# Altium footprint library PCB - CAPACITOR - ALUMINIUM - CAP TH ALUM ELEC D25.00mm S10.00mm H42.00mm.PCBLIB: 1 footprints
Each footprint in its own frame and in the unit in brackets; x right, y up, seen from the top. Pads: shape width x height; smd on the part's side, far side on the other; paste and mask are expansions set on the pad; w line width, h text height; cw(c..) or ccw(c..) is an arc to the next point about the centre after c.
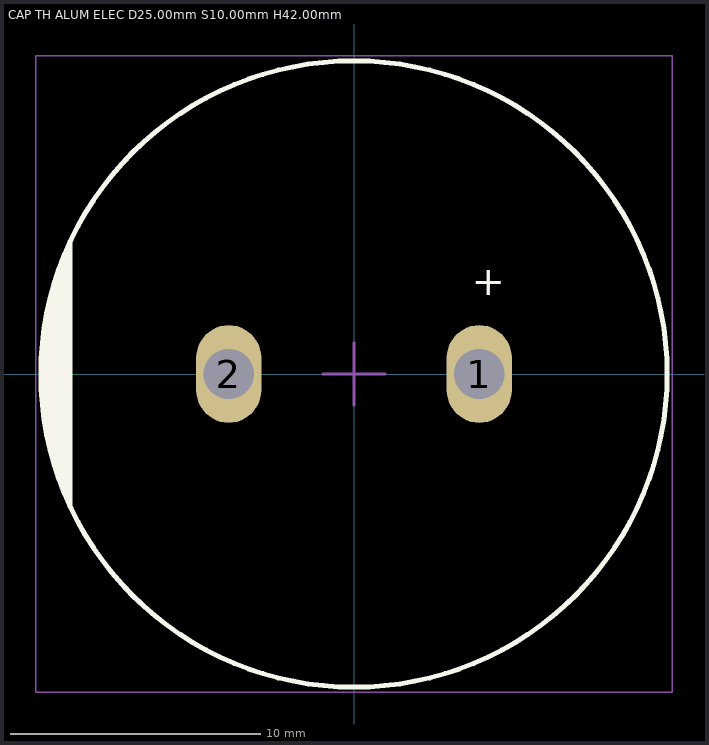
[diagram p0: the footprint, top view; thin cyan lines are the x and y axes]

## CAP TH ALUM ELEC D25.00mm S10.00mm H42.00mm [mm] "25mm Diameter 10mm Lead Spacing Aluminum Electrolytic Capacitors Radial, Can , Snap-In"
height 42
pads (2):
  oval 2.6x3.9 hole 2: 1(5,0) 2(-5,0)
Top Overlay:
  circle w0.2: c0,0 r12.5
  region: -11.329,-5.283 -11.521,-4.871 -11.844,-4.021 -12.105,-3.149 -12.302,-2.262 -12.434,-1.362 -12.5,-0.455 -12.5,0.455 -12.434,1.362 -12.302,2.262 -12.105,3.149 -11.844,4.021 -11.521,4.871 -11.329,5.283
  lines w0.2: -11.329,-5.283 cw(c0,0) -11.329,5.283 -11.329,-5.283
  text "+" at 4.7,2.75 h2
Mechanical 13:
  circle w0.1: c0,0 r12.5
  lines w0.1: -11.329,-5.283 -11.329,5.283
Mechanical 15:
  lines w0.05: -12.7,-12.7 -12.7,12.7 12.7,12.7 12.7,-12.7 -12.7,-12.7
  lines w0.1: -1.25,0 0,0 ; 0,-1.25 0,0 ; 0,1.25 0,0 ; 1.25,0 0,0
3D body "Cap TH D25.00mm H42.00mm L10.00mm.step": height 42, standoff -2.5, extent -12.51,-12.5 12.5,12.5